# Altium footprint library 电子管.PcbLib: 3 footprints
Each footprint in its own frame and in the unit in brackets; x right, y up, seen from the top. Pads: shape width x height; smd on the part's side, far side on the other; paste and mask are expansions set on the pad; w line width, h text height; cw(c..) or ccw(c..) is an arc to the next point about the centre after c.
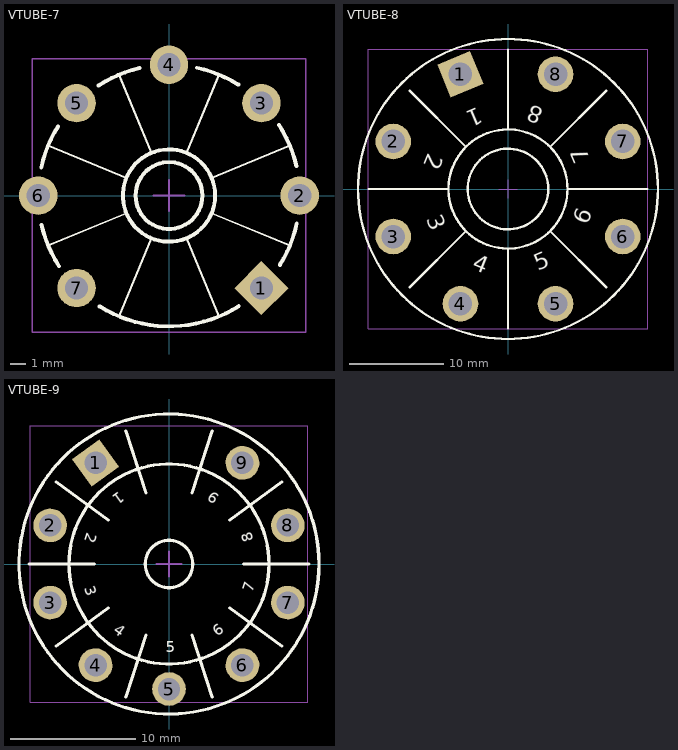
[diagram p0: the footprints below, top view; thin cyan lines are the x and y axes]

## VTUBE-7 [mm] "Beam Power Pentode; 7 Leads"
height 10
pads (7):
  rect 2.5x2.5 hole 1.5 rot 135: 1(6.01,-6.01)
  round 2.5 hole 1.5: 2(8.5,0) 3(6.01,6.01) 4(0,8.5) 5(-6.01,6.01) 6(-8.5,0) 7(-6.01,-6.01)
Top Overlay:
  circle w0.254: c0,0 r3
  circle w0.254: c0,0 r2.17
  lines w0.127: -7.853,-3.253 -2.772,-1.148 ; -7.853,3.253 -2.772,1.148 ; -3.253,-7.853 -1.148,-2.772 ; -3.253,7.853 -1.148,2.772 ; 1.148,-2.772 3.253,-7.853 ; 1.148,2.772 3.253,7.853 ; 2.772,-1.148 7.853,-3.253 ; 2.772,1.148 7.853,3.253
  lines w0.254: -8.306,1.806 cw(c0,0) -7.208,4.505 ; -8.282,-1.911 ccw(c0,0) -7.15,-4.596 ; -4.596,7.15 cw(c0,0) -1.911,8.282 ; -4.505,-7.208 ccw(c0,0) 4.535,-7.189 ; 1.806,8.306 cw(c0,0) 4.505,7.208 ; 7.15,4.596 cw(c0,0) 8.282,1.911 ; 7.208,-4.505 ccw(c0,0) 8.306,-1.806
Mechanical 13:
  lines w0.1: -8.9,-8.898 -8.9,8.902 8.9,8.902 8.9,-8.898 -8.9,-8.898
Mechanical 15:
  lines w0.127: -1,0 0,0 ; 0,-1 0,0 ; 0,1 0,0 ; 1,0 0,0
3D body: height 12, standoff -3.75, extent -8.9,-8.898 8.9,8.902

## VTUBE-8 [mm] "Medium Mu Dual Triode; 8 Leads"
height 15
pads (8):
  rect 3.8x3.8 hole 2.5 rot 112.5: 1(-5.071,12.241)
  round 3.8 hole 2.5: 2(-12.241,5.071) 3(-12.241,-5.071) 4(-5.071,-12.241) 5(5.071,-12.241) 6(12.241,-5.071) 7(12.241,5.071) 8(5.071,12.241)
Top Overlay:
  circle w0.254: c0,0 r4.3
  circle w0.254: c0,0 r16
  circle w0.254: c0,0 r6.35
  lines w0.254: -14.859,0 -6.35,0 ; -10.507,-10.507 -4.508,-4.508 ; -10.507,10.507 -4.508,4.508 ; 0,-14.859 0,-6.35 ; 0,6.35 0,14.859 ; 4.508,-4.508 10.507,-10.507 ; 4.508,4.508 10.507,10.507 ; 6.35,0 14.859,0
  text "8" at 4.149,9.034 h3
  text "7" at 9.322,3.454 h3
  text "6" at 9.034,-4.149 h3
  text "5" at 3.454,-9.322 h3
  text "4" at -4.149,-9.034 h3
  text "3" at -9.322,-3.454 h3
  text "2" at -9.034,4.149 h3
  text "1" at -3.454,9.322 h3
Mechanical 13:
  lines w0.1: -14.91,-14.898 14.886,-14.898 14.886,14.898 -14.91,14.898 -14.91,-14.898
Mechanical 15:
  lines w0.127: -1,0 0,0 ; 0,-1 0,0 ; 0,1 0,0 ; 1,0 0,0
3D body: height 16.5, standoff -5, extent -14.91,-14.898 14.886,14.898

## VTUBE-9 [mm] "Medium Mu Dual Triode; 9 Leads"
height 12
pads (9):
  rect 2.7x2.7 hole 1.8 rot 126: 1(-5.878,8.09)
  round 2.7 hole 1.8: 2(-9.511,3.09) 3(-9.511,-3.09) 4(-5.878,-8.09) 5(0,-10) 6(5.878,-8.09) 7(9.511,-3.09) 8(9.511,3.09) 9(5.878,8.09)
Top Overlay:
  circle w0.254: c0,0 r1.9
  circle w0.254: c0,0 r8.001
  circle w0.254: c0,0 r12
  lines w0.254: -11.176,0 -5.969,0 ; -9.042,-6.569 -4.829,-3.508 ; -9.042,6.569 -4.829,3.508 ; -3.454,-10.629 -1.845,-5.677 ; -3.454,10.629 -1.845,5.677 ; 1.845,-5.677 3.454,-10.629 ; 1.845,5.677 3.454,10.629 ; 4.829,-3.508 9.042,-6.569 ; 4.829,3.508 9.042,6.569 ; 5.969,0 11.176,0
  text "9" at 4.318,5.715 h1.52
  text "8" at 7.112,2.032 h1.52
  text "7" at 6.985,-2.413 h1.52
  text "6" at 4.064,-6.096 h1.52
  text "5" at -0.254,-7.366 h1.52
  text "4" at -4.699,-5.715 h1.52
  text "3" at -7.112,-2.032 h1.52
  text "2" at -6.858,2.667 h1.52
  text "1" at -4.191,6.096 h1.52
Mechanical 13:
  lines w0.1: -11.1,-11.077 11.1,-11.077 11.1,11.077 -11.1,11.077 -11.1,-11.077
Mechanical 15:
  lines w0.127: -1,0 0,0 ; 0,-1 0,0 ; 0,1 0,0 ; 1,0 0,0
3D body: height 12.1, standoff -4.05, extent -11.1,-11.122 11.055,11.077